# EAGLE library part 140UD1 (library _motovilo)
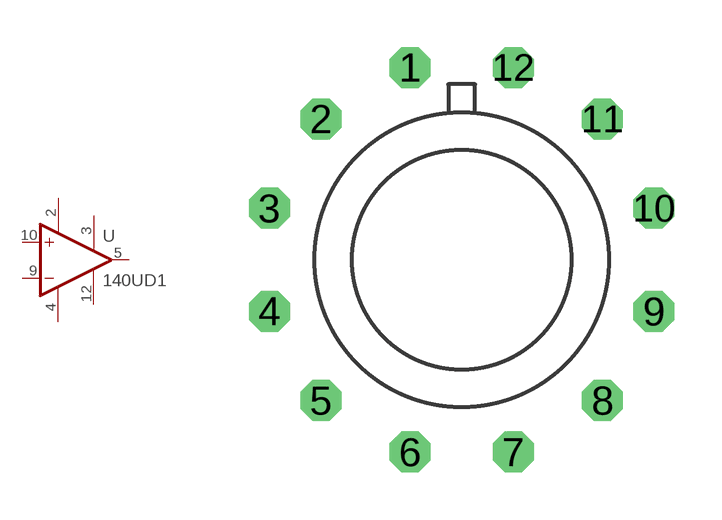
[diagram p18: symbol with the pads of CAN-12_WIDE; footprint CAN-12_WIDE]

Designator prefix -

## 140UD1  [CAN-12_WIDE]
2  K2  pas
3  K3  pas
4  GND  sup
5  OUT  out
9  -IN  in
10  +IN  in
12  COMP  pas

## Footprint CAN-12_WIDE (pad centres in mm)
drill 0.8 octagon: 1 -1.643,6.134; 2 -4.49,4.49; 3 -6.134,1.643; 4 -6.134,-1.643; 5 -4.49,-4.49; 6 -1.643,-6.134; 7 1.643,-6.134; 8 4.49,-4.49; 9 6.134,-1.643; 10 6.134,1.643; 11 4.49,4.49; 12 1.643,6.134